# Altium schematic symbol library 100_1_14.Schlib: 1 symbol
Pins are listed as number, name and electrical type; pins without a type are passive.

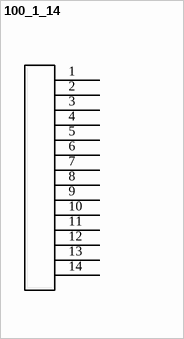
[diagram p0: symbol 100_1_14]

## 100_1_14
designator J?, comment 1x14 Header  (no BOM)
Generic 1x14 2.54mm pitch header; Manufacturer: Wavenumber; Manufacturer Part Number: 100_1_14; Value: 1x14 Header
footprint 100_1_14
pins: 1, 2, 3, 4, 5, 6, 7, 8, 9, 10, 11, 12, 13, 14